# Altium footprint library DRV8834PWP.PCBLIB: 1 footprints
Each footprint in its own frame and in the unit in brackets; x right, y up, seen from the top. Pads: shape width x height; smd on the part's side, far side on the other; paste and mask are expansions set on the pad; w line width, h text height; cw(c..) or ccw(c..) is an arc to the next point about the centre after c.
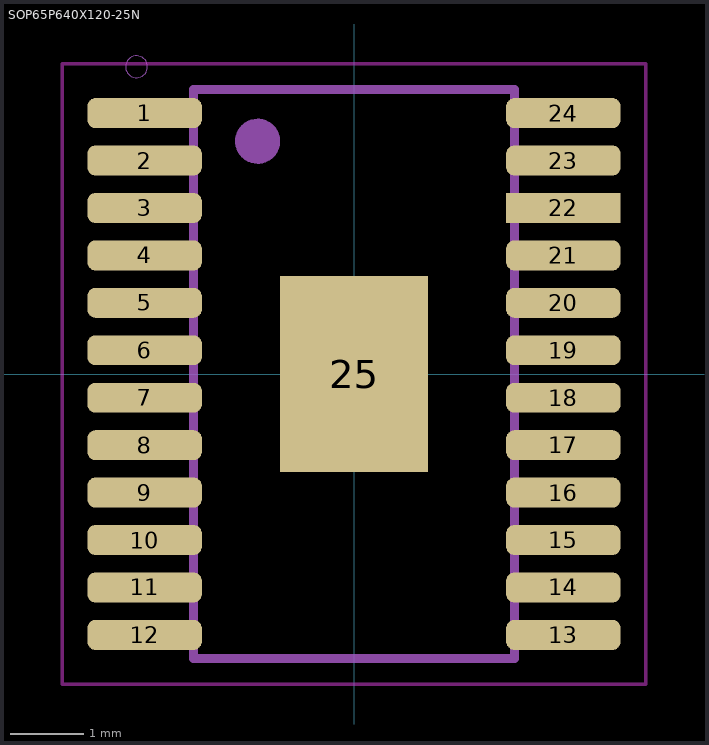
[diagram p0: the footprint, top view; thin cyan lines are the x and y axes]

## SOP65P640X120-25N [mm]
pads (25):
  rrect54% 1.57x0.41 smd: 1(-2.87,3.575) 2(-2.87,2.925) 3(-2.87,2.275) 4(-2.87,1.625) 5(-2.87,0.975) 6(-2.87,0.325) 7(-2.87,-0.325) 8(-2.87,-0.975) 9(-2.87,-1.625) 10(-2.87,-2.275) 11(-2.87,-2.925) 12(-2.87,-3.575) 13(2.87,-3.575) 14(2.87,-2.925) 15(2.87,-2.275) 16(2.87,-1.625) 17(2.87,-0.975) 18(2.87,-0.325) 19(2.87,0.325) 20(2.87,0.975) 21(2.87,1.625) 23(2.87,2.925) 24(2.87,3.575)
  rect 1.57x0.41 smd: 22(2.87,2.275)
  rect 2.025x2.68 smd paste+0: 25(0,0)
Top keep-out:
  lines w0.05: -4,-4.25 4,-4.25 4,4.25 -4,4.25 -4,-4.25
Top Paste:
  region: -0.11,1.11 -0.11,0.11 -0.791,0.11 -0.791,1.11
  region: 0.11,-1.113 0.11,-0.11 0.79,-0.11 0.79,-1.113
  region: -0.791,-1.112 -0.791,-0.11 -0.11,-0.11 -0.11,-1.112
  region: 0.11,0.11 0.11,1.11 0.79,1.11 0.79,0.11
tDocu:
  lines w0.127: -2.2,-3.9 -2.2,3.9 ; 2.2,-3.9 2.2,3.9
tPlace:
  circle w0.127: c-1.32,3.19 r0.155
  circle w0.127: c-1.32,3.19 r0.11
  circle w0.127: c-1.43,3.19 r0.11
  circle w0.127: c-1.43,3.19 r0.11
  circle w0.127: c-1.32,3.19 r0.246
  circle w0: c-2.98,4.21 r0.15
  lines w0.127: -2.2,-3.9 2.2,-3.9 ; -2.2,3.9 2.2,3.9
3D body "DRV8834PWP.STEP": height 1.2, standoff 0, extent -3.2,-3.9 3.2,3.9